# Altium schematic symbol library 7.0 - 数字符号.SCHLIB: 61 symbols
Pins are listed as number, name and electrical type; pins without a type are passive.

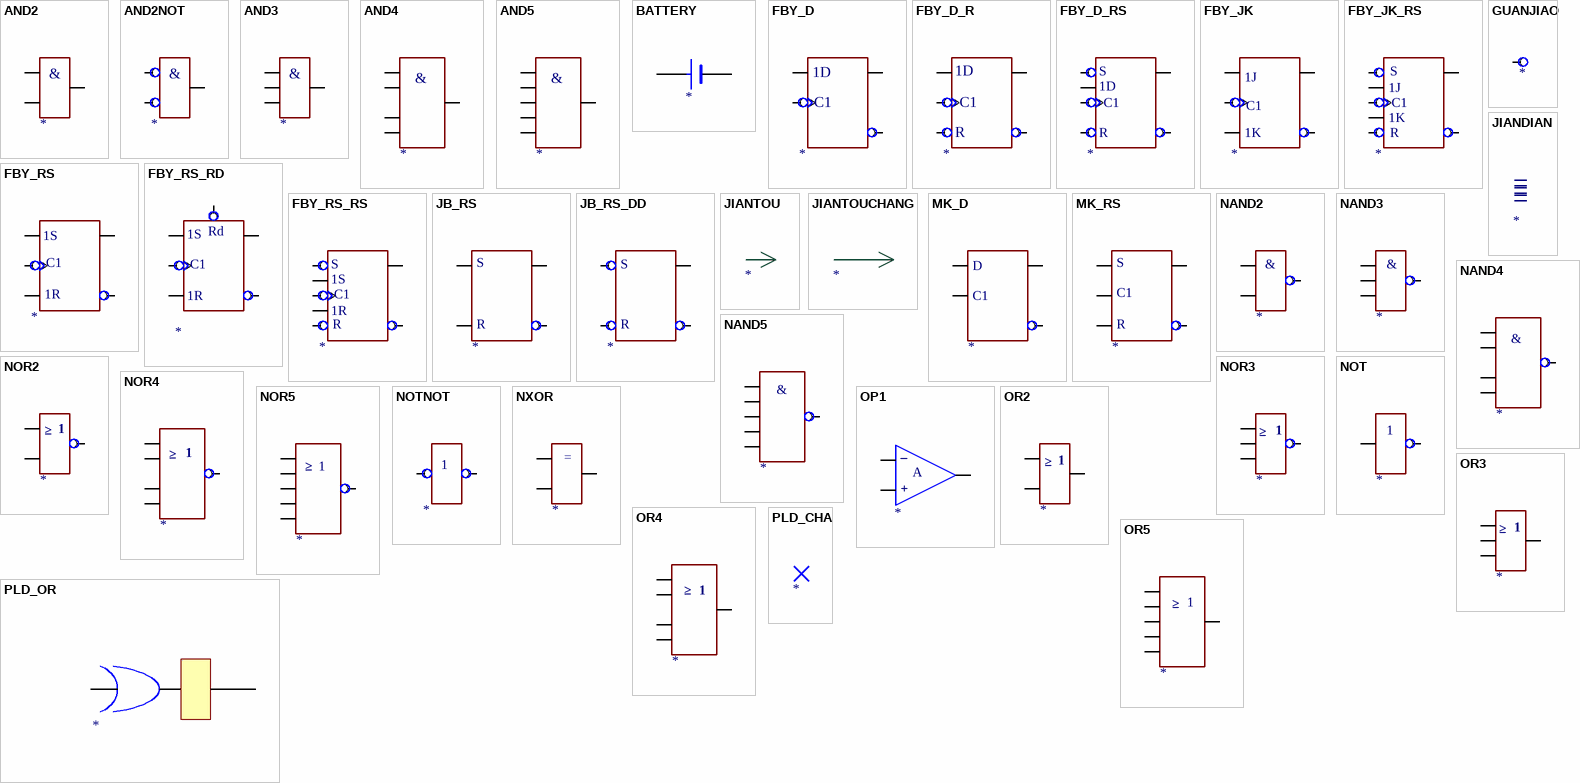
[diagram p0: symbols AND2 to PLD_OR]

## AND2
designator ?
封装库来自淘宝卖家 ID：黄晶宝石: 其他店铺购入均为盗版，不享受售后技术支持服务，请立即申请退款
pins: 4, 5, 6
text: &

## AND2NOT
designator ?
封装库来自淘宝卖家 ID：黄晶宝石: 其他店铺购入均为盗版假冒封装库
pins: 4, 5, 6
text: &

## AND3
designator ?
封装库来自淘宝卖家 ID：黄晶宝石: 其他店铺购入均为盗版假冒封装库
pins: 4, 5, 6, 7
text: &

## AND4
designator ?
封装库来自淘宝卖家 ID：黄晶宝石: 其他店铺购入均为盗版假冒封装库
pins: 4, 5, 6, 7, 8
text: &

## AND5
designator ?
封装库来自淘宝卖家 ID：黄晶宝石: 其他店铺购入均为盗版假冒封装库
pins: 4, 5, 6, 7, 8, 14
text: &

## BATTERY
designator ?
封装库来自淘宝卖家 ID：黄晶宝石: 其他店铺购入均为盗版假冒封装库
pins: 1 +, 2 -

## FBY_D
designator ?
封装库来自淘宝卖家 ID：黄晶宝石: 其他店铺购入均为盗版假冒封装库
pins: 17, 18, 19, 20
text: 1D; C1

## FBY_D_R
designator ?
封装库来自淘宝卖家 ID：黄晶宝石: 其他店铺购入均为盗版假冒封装库
pins: 17, 18, 19, 20, 29
text: 1D; C1; R

## FBY_D_RS
designator ?
封装库来自淘宝卖家 ID：黄晶宝石: 其他店铺购入均为盗版假冒封装库
pins: 17, 18, 19, 20, 28, 29
text: S; 1D; C1; R

## FBY_JK
designator ?
封装库来自淘宝卖家 ID：黄晶宝石: 其他店铺购入均为盗版假冒封装库
pins: 17, 18, 19, 20, 21
text: 1J; C1; 1K

## FBY_JK_RS
designator ?
封装库来自淘宝卖家 ID：黄晶宝石: 其他店铺购入均为盗版假冒封装库
pins: 17, 18, 19, 20, 21, 24, 25
text: S; 1J; C1; 1K; R

## FBY_RS
designator ?
封装库来自淘宝卖家 ID：黄晶宝石: 其他店铺购入均为盗版假冒封装库
pins: 17, 18, 19, 20, 21
text: 1S; C1; 1R

## FBY_RS_RD
designator ?
封装库来自淘宝卖家 ID：黄晶宝石: 其他店铺购入均为盗版假冒封装库
pins: 17, 18, 19, 20, 21, 26
text: 1S; Rd; C1; 1R

## FBY_RS_RS
designator ?
封装库来自淘宝卖家 ID：黄晶宝石: 其他店铺购入均为盗版假冒封装库
pins: 17, 18, 19, 20, 21, 26, 27
text: S; 1S; C1; 1R; R

## GUANJIAO
designator ?
封装库来自淘宝卖家 ID：黄晶宝石: 其他店铺购入均为盗版假冒封装库
pins: 37

## JB_RS
designator ?
封装库来自淘宝卖家 ID：黄晶宝石: 其他店铺购入均为盗版假冒封装库
pins: 17, 18, 19, 20
text: S; R

## JB_RS_DD
designator ?
封装库来自淘宝卖家 ID：黄晶宝石: 其他店铺购入均为盗版假冒封装库
pins: 17, 18, 19, 20
text: S; R

## JIANDIAN
designator ?
封装库来自淘宝卖家 ID：黄晶宝石: 其他店铺购入均为盗版假冒封装库

## JIANTOU
designator ?
封装库来自淘宝卖家 ID：黄晶宝石: 其他店铺购入均为盗版假冒封装库

## JIANTOUCHANG
designator ?
封装库来自淘宝卖家 ID：黄晶宝石: 其他店铺购入均为盗版假冒封装库

## MK_D
designator ?
封装库来自淘宝卖家 ID：黄晶宝石: 其他店铺购入均为盗版假冒封装库
pins: 17 D, 18, 19, 21
text: C1

## MK_RS
designator ?
封装库来自淘宝卖家 ID：黄晶宝石: 其他店铺购入均为盗版假冒封装库
pins: 17, 18, 19, 20, 21
text: S; C1; R

## NAND2
designator ?
封装库来自淘宝卖家 ID：黄晶宝石: 其他店铺购入均为盗版假冒封装库
pins: 4, 5, 6
text: &

## NAND3
designator ?
封装库来自淘宝卖家 ID：黄晶宝石: 其他店铺购入均为盗版假冒封装库
pins: 4, 5, 6, 7
text: &

## NAND4
designator ?
封装库来自淘宝卖家 ID：黄晶宝石: 其他店铺购入均为盗版假冒封装库
pins: 4, 5, 6, 7, 8
text: &

## NAND5
designator ?
封装库来自淘宝卖家 ID：黄晶宝石: 其他店铺购入均为盗版假冒封装库
pins: 4, 5, 6, 7, 8, 13
text: &

## NOR2
designator ?
封装库来自淘宝卖家 ID：黄晶宝石: 其他店铺购入均为盗版假冒封装库
pins: 4, 5, 6
text: ≥; 1

## NOR3
designator ?
封装库来自淘宝卖家 ID：黄晶宝石: 其他店铺购入均为盗版假冒封装库
pins: 4, 5, 6, 12
text: 1; ≥

## NOR4
designator ?
封装库来自淘宝卖家 ID：黄晶宝石: 其他店铺购入均为盗版假冒封装库
pins: 4, 5, 6, 10, 11
text: 1; ≥

## NOR5
designator ?
封装库来自淘宝卖家 ID：黄晶宝石: 其他店铺购入均为盗版假冒封装库
pins: 4, 5, 6, 10, 11, 16
text: ≥; 1

## NOT
designator ?
封装库来自淘宝卖家 ID：黄晶宝石: 其他店铺购入均为盗版假冒封装库
pins: 4, 6
text: 1

## NOTNOT
designator ?
封装库来自淘宝卖家 ID：黄晶宝石: 其他店铺购入均为盗版假冒封装库
pins: 4, 6
text: 1

## NXOR
designator ?
封装库来自淘宝卖家 ID：黄晶宝石: 其他店铺购入均为盗版假冒封装库
pins: 4, 5, 6

## OP1
designator ?
封装库来自淘宝卖家 ID：黄晶宝石: 其他店铺购入均为盗版假冒封装库
pins: 38, 39, 40
text: _; A; +

## OR2
designator ?
封装库来自淘宝卖家 ID：黄晶宝石: 其他店铺购入均为盗版假冒封装库
pins: 4, 5, 6
text: 1; ≥

## OR3
designator ?
封装库来自淘宝卖家 ID：黄晶宝石: 其他店铺购入均为盗版假冒封装库
pins: 4, 5, 6, 12
text: 1; ≥

## OR4
designator ?
封装库来自淘宝卖家 ID：黄晶宝石: 其他店铺购入均为盗版假冒封装库
pins: 4, 5, 6, 10, 11
text: ≥; 1

## OR5
designator ?
封装库来自淘宝卖家 ID：黄晶宝石: 其他店铺购入均为盗版假冒封装库
pins: 4, 5, 6, 10, 11, 15
text: ≥; 1

## PLD_CHA
designator ?
封装库来自淘宝卖家 ID：黄晶宝石: 其他店铺购入均为盗版假冒封装库

## PLD_OR
designator ?
封装库来自淘宝卖家 ID：黄晶宝石: 其他店铺购入均为盗版假冒封装库
pins: 70, 75, 76

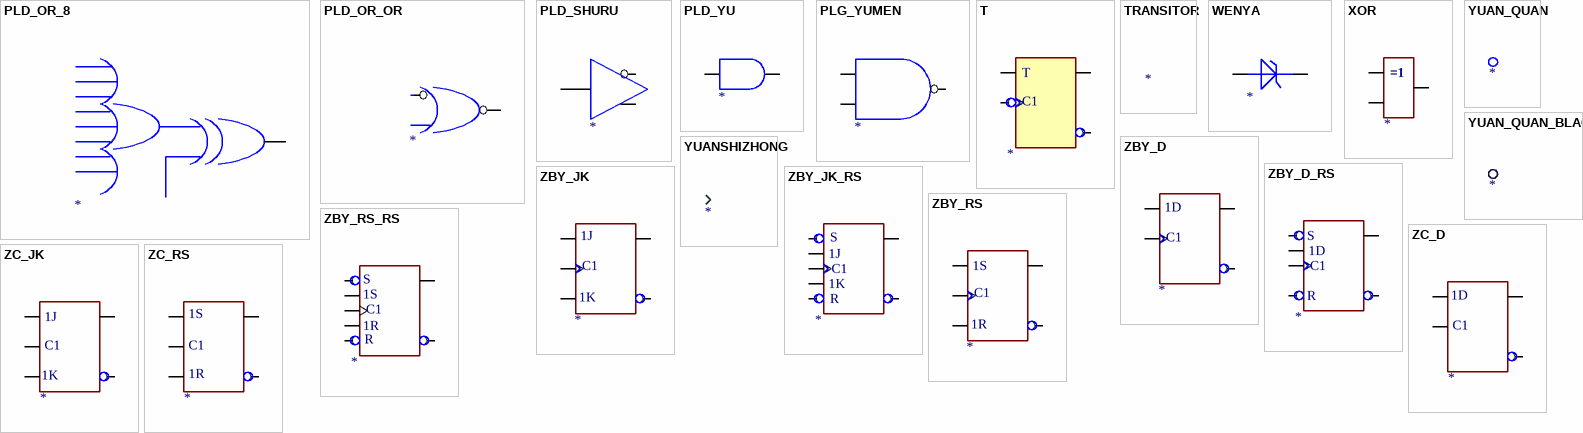
[diagram p1: symbols PLD_OR_8 to ZC_RS]

## PLD_OR_8
designator ?
封装库来自淘宝卖家 ID：黄晶宝石: 其他店铺购入均为盗版假冒封装库
pins: 75

## PLD_OR_OR
designator ?
封装库来自淘宝卖家 ID：黄晶宝石: 其他店铺购入均为盗版假冒封装库
pins: 74, 75

## PLD_SHURU
designator ?
封装库来自淘宝卖家 ID：黄晶宝石: 其他店铺购入均为盗版假冒封装库
pins: 70, 71, 72

## PLD_YU
designator ?
封装库来自淘宝卖家 ID：黄晶宝石: 其他店铺购入均为盗版假冒封装库
pins: 73, 74

## PLG_YUMEN
designator ?
封装库来自淘宝卖家 ID：黄晶宝石: 其他店铺购入均为盗版假冒封装库
pins: 71, 72, 73

## T
designator ?
封装库来自淘宝卖家 ID：黄晶宝石: 其他店铺购入均为盗版假冒封装库
pins: 17, 18, 19, 20
text: C1

## TRANSITOR
designator ?
封装库来自淘宝卖家 ID：黄晶宝石: 其他店铺购入均为盗版假冒封装库

## WENYA
designator ?
封装库来自淘宝卖家 ID：黄晶宝石: 其他店铺购入均为盗版假冒封装库
pins: 1 A, 2 K

## XOR
designator ?
封装库来自淘宝卖家 ID：黄晶宝石: 其他店铺购入均为盗版假冒封装库
pins: 4, 5, 6

## YUAN_QUAN
designator ?
封装库来自淘宝卖家 ID：黄晶宝石: 其他店铺购入均为盗版假冒封装库

## YUAN_QUAN_BLACK
designator ?
封装库来自淘宝卖家 ID：黄晶宝石: 其他店铺购入均为盗版假冒封装库

## YUANSHIZHONG
designator ?
封装库来自淘宝卖家 ID：黄晶宝石: 其他店铺购入均为盗版假冒封装库

## ZBY_D
designator ?
封装库来自淘宝卖家 ID：黄晶宝石: 其他店铺购入均为盗版假冒封装库
pins: 17, 18, 19, 20
text: 1D; C1

## ZBY_D_RS
designator ?
封装库来自淘宝卖家 ID：黄晶宝石: 其他店铺购入均为盗版假冒封装库
pins: 17, 18, 19, 20, 22, 23
text: S; 1D; C1; R

## ZBY_JK
designator ?
封装库来自淘宝卖家 ID：黄晶宝石: 其他店铺购入均为盗版假冒封装库
pins: 17, 18, 19, 20, 21
text: 1J; C1; 1K

## ZBY_JK_RS
designator ?
封装库来自淘宝卖家 ID：黄晶宝石: 其他店铺购入均为盗版假冒封装库
pins: 17, 18, 19, 20, 21, 24, 25
text: S; 1J; C1; 1K; R

## ZBY_RS
designator ?
封装库来自淘宝卖家 ID：黄晶宝石: 其他店铺购入均为盗版假冒封装库
pins: 17, 18, 19, 20, 21
text: 1S; C1; 1R

## ZBY_RS_RS
designator ?
封装库来自淘宝卖家 ID：黄晶宝石: 其他店铺购入均为盗版假冒封装库
pins: 17, 18, 19, 20, 21, 26, 27
text: S; 1S; C1; 1R; R

## ZC_D
designator ?
封装库来自淘宝卖家 ID：黄晶宝石: 其他店铺购入均为盗版假冒封装库
pins: 17, 18, 19, 20
text: 1D; C1

## ZC_JK
designator ?
封装库来自淘宝卖家 ID：黄晶宝石: 其他店铺购入均为盗版假冒封装库
pins: 17, 18, 19, 20, 21
text: 1J; C1; 1K

## ZC_RS
designator ?
封装库来自淘宝卖家 ID：黄晶宝石: 其他店铺购入均为盗版，不享受售后技术支持服务，请立即申请退款
pins: 17, 18, 19, 20, 21
text: 1S; C1; 1R